# EAGLE library part NC7SZ57/58 (library fairchild-semi)
UHS Universal Configurable 2-Input Gate
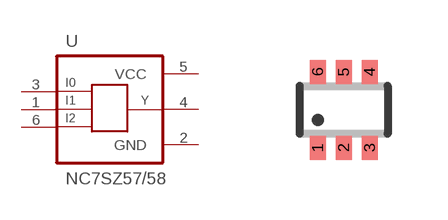
[diagram p11: symbol with the pads of SC70-6; footprint SC70-6]

Designator prefix U

## NC7SZ57/58  [SC70-6]
1  I1  in
2  GND  pwr
3  I0  in
4  Y  out
5  VCC  pwr
6  I2  in

## Footprint SC70-6 (pad centres in mm)
SC-70 Package - Fairchild
smd 0.4 x 0.6: 1 -0.65,-0.95; 2 0,-0.95; 3 0.65,-0.95; 4 0.65,0.95; 5 0,0.95; 6 -0.65,0.95